# Altium schematic symbol library 74991214400.SCHLIB: 1 symbol
Pins are listed as number, name and electrical type; pins without a type are passive.

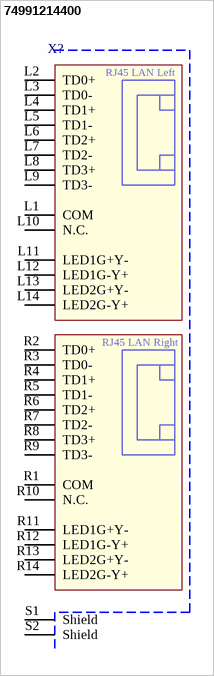
[diagram p0: symbol 74991214400]

## 74991214400
designator X?
pins: L1 COM, L2 TD0+, L3 TD0-, L4 TD1+, L5 TD1-, L6 TD2+, L7 TD2-, L8 TD3+, L9 TD3-, L10 N.C., L11 LED1G+Y-, L12 LED1G-Y+, L13 LED2G+Y-, L14 LED2G-Y+, R1 COM, R2 TD0+, R3 TD0-, R4 TD1+, R5 TD1-, R6 TD2+, R7 TD2-, R8 TD3+, R9 TD3-, R10 N.C., R11 LED1G+Y-, R12 LED1G-Y+, R13 LED2G+Y-, R14 LED2G-Y+, S1 Shield, S2 Shield
text: RJ45 LAN Left; RJ45 LAN Right